# EAGLE library part MAGJACK-1840437 (library pimoroni-connectors)
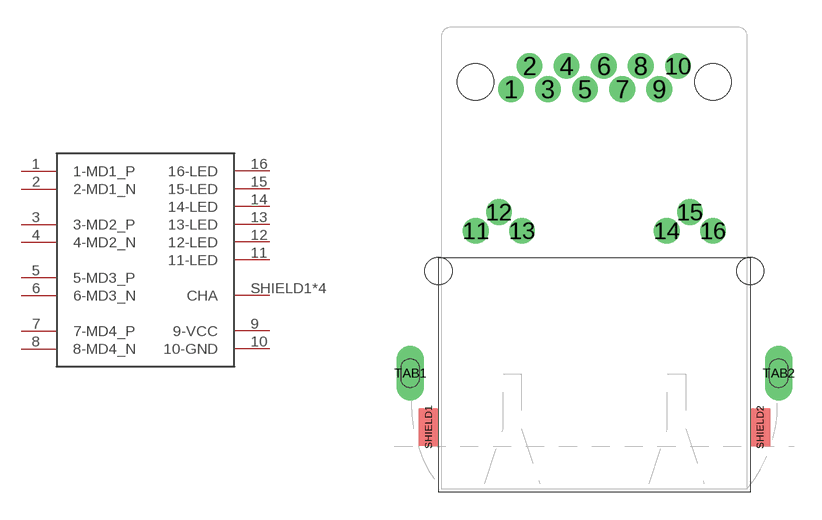
[diagram p30: symbol with the pads of MAGJACK-1840437; footprint MAGJACK-1840437]

Designator prefix -

## MAGJACK-1840437  [MAGJACK-1840437]
1  1-MD1_P
2  2-MD1_N
3  3-MD2_P
4  4-MD2_N
5  5-MD3_P
6  6-MD3_N
7  7-MD4_P
8  8-MD4_N
9  9-VCC
10  10-GND
11  11-LED
12  12-LED
13  13-LED
14  14-LED
15  15-LED
16  16-LED
SHIELD1  CHA
SHIELD2  CHA
TAB1  CHA
TAB2  CHA

## Footprint MAGJACK-1840437 (pad centres in mm)
drill 0.9 pad 1.25: 1 -4.572,-0.39; 2 -3.556,0.88; 3 -2.54,-0.39; 4 -1.524,0.88; 5 -0.508,-0.39; 6 0.508,0.88; 7 1.524,-0.39; 8 2.54,0.88; 9 3.556,-0.39; 10 4.572,0.88; 11 -6.5,-8.14; 12 -5.23,-7.12; 13 -3.96,-8.14; 14 3.96,-8.14; 15 5.23,-7.12; 16 6.5,-8.14
smd 1.08 x 2.06: SHIELD1 -9.079,-18.915; SHIELD2 9.077,-18.918
drill 1 pad 1.25 long: TAB1 -10.085,-15.95; TAB2 10.085,-15.95
hole 2 at -6.5,0
hole 2 at 6.5,0
hole 1.5 at -8.535,-10.35
hole 1.5 at 8.535,-10.35